# Altium schematic symbol library BSH103.215.Schlib: 1 symbol
Pins are listed as number, name and electrical type; pins without a type are passive.

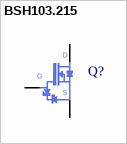
[diagram p0: symbol BSH103.215]

## BSH103.215
designator Q?  (value not drawn)  (graphical)
pins: 1 G, 2 S, 3 D